# Altium footprint library 691 201 520 0xx.PcbLib: 2 footprints
Each footprint in its own frame and in the unit in brackets; x right, y up, seen from the top. Pads: shape width x height; smd on the part's side, far side on the other; paste and mask are expansions set on the pad; w line width, h text height; cw(c..) or ccw(c..) is an arc to the next point about the centre after c.
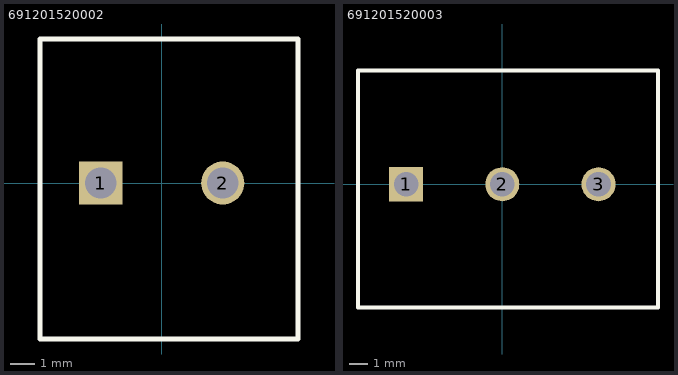
[diagram p0: the footprints below, top view; thin cyan lines are the x and y axes]

## 691201520002 [mm] "Serie 2015 - 5.08 mm _ 2 pins"
height 12
pads (2):
  rect 1.8x1.8 hole 1.3: 1(-2.54,0)
  round 1.8 hole 1.3: 2(2.54,0)
Top Overlay:
  lines w0.2: -5.08,-6.5 -5.08,6 5.68,6 5.68,-6.5 -5.08,-6.5
3D body: height 12.1, standoff -4.4, extent -5.13,-6.55 5.63,5.95

## 691201520003 [mm] "Serie 2015 - 5.08 mm _ 3 pins"
height 12
pads (3):
  rect 1.8x1.8 hole 1.3: 1(-5.08,0)
  round 1.8 hole 1.3: 2(0,0) 3(5.08,0)
Top Overlay:
  lines w0.2: -7.62,-6.5 -7.62,6 8.22,6 8.22,-6.5 -7.62,-6.5
3D body: height 12.1, standoff -4.4, extent -7.55,-6.45 8.29,6.05